# Altium schematic symbol library PADS_lib3.SCHLIB: 31 symbols
Pins are listed as number, name and electrical type; pins without a type are passive.

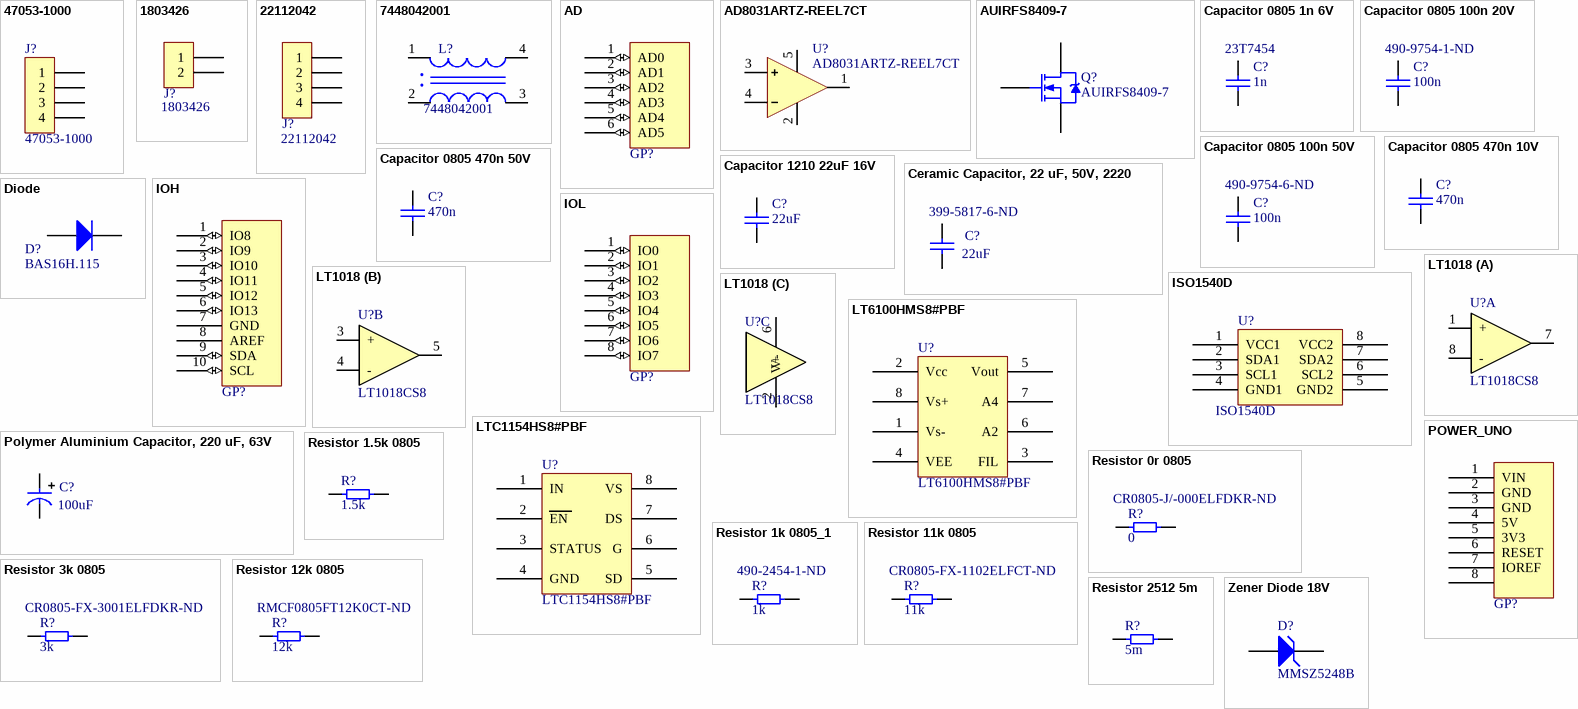
[diagram p0: symbols 47053-1000 to Zener Diode 18V]

## 47053-1000
designator J?
Fan Molex; HelpURL: http://www.molex.com/pdm_docs/sd/470531000_sd.pdf; Supplier 1: Digikey; Supplier Part Number 1: 47053-1000
footprint 47053-1000
pins: 1, 2, 3, 4

## 1803426
designator J?
2 Position Terminal Block Header; Manufacturer: Phoenix Contact; Pin Count: 2; ManufacturerNr: 1803426; HelpURL: https://media.digikey.com/pdf/Data%20Sheets/Phoenix%20Contact%20PDFs/1803426.pdf; Supplier 1: Digikey; Supplier Part Number 1: 277-1221-ND
footprint 1803426
pins: 1, 2

## 22112042
designator J?
KK® 254 Solid Header, Vertical, with Friction Lock, 4 Circuits, Gold (Au) Plating; Manufacturer: Molex; Pin Count: 4; ManufacturerNr: 22-11-2042; HelpURL: http://www.molex.com/pdm_docs/sd/022112042_sd.pdf; Supplier 1: Digikey; Supplier Part Number 1: WM2702-ND
footprint 22112042
footprint 22112042
pins: 1, 2, 3, 4

## 7448042001
designator L?
Common Mode Choke; HelpURL: http://www.mouser.com/ds/2/445/7448042001-321510.pdf; Supplier 1: Mouser; Supplier Part Number 1: 710-7448042001
footprint 7448042001-321510
pins: 1, 2, 3, 4
text: .

## AD
designator GP?  (value not drawn)
Arduino Goldpin AD[0..5]; Supplier 1: Arrow; Supplier Part Number 1: 2699089; Supplier 2: Digi-Key; Supplier Part Number 2: SAM1198-06-ND; Supplier 3: Arrow; Supplier Part Number 3: 2699088; Supplier 4: Arrow; Supplier Part Number 4: 2699075; HelpURL: http://suddendocs.samtec.com/catalog_english/ssq_th.pdf
footprint Header 6x1 8.5mm (Stackable 6 pin header)
pins: 1 AD0 (io), 2 AD1 (io), 3 AD2 (io), 4 AD3 (io), 5 AD4 (io), 6 AD5 (io)

## AD8031ARTZ-REEL7CT
designator U?
2.7 V, 800 μA, 80 MHz / Rail-to-Rail I/O Amplifiers; Manufacturer: Analog Devices; Pin Count: 5; ManufacturerNr: AD8031ARTZ-REEL7CT; Package: SOT23-5; HelpURL: http://www.analog.com/media/en/technical-documentation/data-sheets/AD8031_8032.pdf; Supplier 1: Digikey; Supplier Part Number 1: AD8031ARTZ-REEL7CT-ND
footprint AD-SOT23-5
pins: 1 VOUT, 2 V-, 3 IN++, 4 IN-, 5 V+

## AUIRFS8409-7
designator Q?
HEXFETPower MOSFET; Manufacturer: International Rectifier; Pin Count: 7; ManufacturerNr: AUIRFS8409-7; Package: D2PAK-7; HelpURL: http://www.infineon.com/dgdl/auirfs8409.pdf?fileId=5546d462533600a4015355b73c5f14ec; Supplier 1: Digikey; Supplier Part Number 1: IRAUIRFS8409-7P-ND
footprint AUIRFS8409-7
footprint IR-D2PAK-7
pins: 1 G, 2 S, 3 S, 4 S, 5 S, 6 S, 7 D

## Capacitor 0805 1n 6V
designator C?, comment 1n  Supplier Part Number 1: 23T7454
Capacitor 0805 1n 6V; Part Number: C0805; Pin Count: 2; Manufacturer: *; Package: 0805; ManufacturerNr: *; Value: 1n; Voltage Rating: 6V; Dielectric: *; Supplier 1: Newark
footprint 0805-Capacitor
pins: 1, 2

## Capacitor 0805 100n 20V
designator C?, comment 100n  Supplier Part Number 1: 490-9754-1-ND
Capacitor 0805 100n 20V; Part Number: C0805; Pin Count: 2; Manufacturer: *; Package: 0805; ManufacturerNr: *; Value: 100n; Voltage Rating: 20V; Dielectric: *; Supplier 1: Digikey
footprint 0805-Capacitor
pins: 1, 2

## Capacitor 0805 100n 50V
designator C?, comment 100n  Supplier Part Number 1: 490-9754-6-ND
Capacitor 0805 100n 50V; Part Number: C0805; Pin Count: 2; Manufacturer: *; Package: 0805; ManufacturerNr: *; Value: 100n; Voltage Rating: 50V; Dielectric: *; Supplier 1: Digikey
footprint 0805-Capacitor
pins: 1, 2

## Capacitor 0805 470n 10V
designator C?, comment 470n
Capacitor 0805 470n 10V; Part Number: C0805; Pin Count: 2; Manufacturer: *; Package: 0805; ManufacturerNr: *; Value: 470n; Voltage Rating: 10V; Dielectric: *; Supplier 1: Mouser; Supplier Part Number 1: 581-0805ZC474K4Z2A
footprint 0805-Capacitor
pins: 1, 2

## Capacitor 0805 470n 50V
designator C?, comment 470n
Capacitor 0805 470n 50V; Part Number: C0805; Pin Count: 2; Manufacturer: *; Package: 0805; ManufacturerNr: *; Value: 470n; Voltage Rating: 50V; Dielectric: *; Supplier 1: Mouser; Supplier Part Number 1: 581-0805ZC474K4Z2A
footprint 0805-Capacitor
pins: 1, 2

## Capacitor 1210 22uF 16V
designator C?, comment 22uF
Capacitor 1210 22uF 16V; Part Number: C1210; Pin Count: 2; Manufacturer: *; Package: 1210; ManufacturerNr: *; Value: 22uF; Voltage Rating: 16V; Dielectric: *; Supplier 1: Digikey; Supplier Part Number 1: 399-5092-1-ND
footprint 1210-Capacitor
pins: 1, 2

## Ceramic Capacitor, 22 uF, 50V, 2220
designator C?, comment 22uF  Supplier Part Number 1: 399-5817-6-ND
Ceramic Capacitor, 22 uF, 50V, 2220; Part Number: C2220C226M5R2C7289; Manufacturer: Kemet; Dielectric: X7R; Pin Count: 2; Package: 2220; ManufacturerNr: C2220C226M5R2C7289; Value: 22uF; Voltage Rating: 50V; Supplier 1: Digi-Key
footprint KEMET_2220
pins: 1, 2

## Diode
designator D?, comment BAS16H.115
Diode; Manufacturer: NEXPERIA; Pin Count: 2; Package: SOD123; ManufacturerNr: BAS16H.115; HelpURL: http://assets.nexperia.com/documents/data-sheet/BAS16_SER.pdf; Supplier 1: Digikey; Supplier Part Number 1: 1727-4796-1-ND
footprint SOD123 (SOD123 DIODE)
pins: 1 A, 2 K

## IOH
designator GP?  (value not drawn)
Arduino Goldpin IO8-SCL; Supplier 1: Arrow; Supplier Part Number 1: 2698803S4475693N1004; Supplier 2: Digi-Key; Supplier Part Number 2: SAM1198-10-ND; Supplier 3: Arrow; Supplier Part Number 3: 2698789; HelpURL: http://suddendocs.samtec.com/catalog_english/ssq_th.pdf
footprint Header 10x1 8.5mm (Stackable 10 pin header)
pins: 1 IO8 (io), 2 IO9 (io), 3 IO10 (io), 4 IO11 (io), 5 IO12 (io), 6 IO13 (io), 7 GND (power), 8 AREF, 9 SDA (io), 10 SCL (io)

## IOL
designator GP?  (value not drawn)
Arduino Goldpin IO[0..7]; Supplier 1: Digi-Key; Supplier Part Number 1: SAM1198-08-ND; Supplier 2: Arrow; Supplier Part Number 2: 2698939; Supplier 3: Arrow; Supplier Part Number 3: 2698940; Supplier 4: Arrow; Supplier Part Number 4: 2698925; HelpURL: http://suddendocs.samtec.com/catalog_english/ssq_th.pdf
footprint Header 8x1 8.5mm (Stackable 8 pin header)
pins: 1 IO0 (io), 2 IO1 (io), 3 IO2 (io), 4 IO3 (io), 5 IO4 (io), 6 IO5 (io), 7 IO6 (io), 8 IO7 (io)

## ISO1540D
designator U?
Low-Power Bidirectional I / 2C Isolator; Manufacturer: Texas Instruments; Pin Count: 8; ManufacturerNr: ISO1540D; Package: SOIC-8; HelpURL: http://www.ti.com/lit/ds/symlink/iso1541.pdf; Supplier 1: Farnell; Supplier Part Number 1: 2496652
footprint TI-SO8
pins: 1 VCC1, 2 SDA1, 3 SCL1, 4 GND1, 5 GND2, 6 SCL2, 7 SDA2, 8 VCC2

## LT1018
designator U?, comment LT1018CS8
Micropower  Dual Comparator; HelpURL: http://cds.linear.com/docs/en/datasheet/10178ff.pdf; Supplier 1: TME; Supplier Part Number 1: LT1018CS8PBF
footprint MS8
part A pins: 1 +, 7, 8 -
part B pins: 3 +, 4 -, 5
part C pins: 2 V-, 6 V+

## LT6100HMS8#PBF
designator U?
Precision Current Sense Amplifier; HelpURL: http://www.linear.com/docs/7918; Supplier 1: Digikey; Supplier Part Number 1: LT6100HMS8#PBF-ND
footprint LT-MS8 (TSOP, 8-Leads, Body 3,00x3,00mm, Pitch 0,65mm, IPC Medium Density)
pins: 1 Vs-, 2 Vcc, 3 FIL, 4 VEE, 5 Vout, 6 A2, 7 A4, 8 Vs+

## LTC1154HS8#PBF
designator U?
High side mosfet driver; HelpURL: http://www.linear.com/docs/2054; Supplier 1: Digikey; Supplier Part Number 1: LTC1154HS8#PBF-ND
footprint LT-S8 (SOIC, 8-Leads, Body 4,90x3,90mm, Pitch 1,27mm, IPC Medium Density)
pins: 1 IN, 2 EN, 3 STATUS, 4 GND, 5 SD, 6 G, 7 DS, 8 VS

## Polymer Aluminium Capacitor, 220 uF, 63V
designator C?, comment 100uF
Polymer Aluminium Capacitor, 220 uF, 63V; Part Number: PCR1J101MCL1GS; Manufacturer: Nichicon; Pin Count: 2; Package: PCR_10_12; ManufacturerNr: PCR1J101MCL1GS; Value: 100uF; Voltage Rating: 63V; Dielectric: Polymer Aluminium; Supplier 1: Digikey; Supplier Part Number 1: 493-13783-1-ND
footprint PCR_10_12
pins: 1, 2

## POWER_UNO
designator GP?  (value not drawn)
Arduino Goldpin Power; Supplier 1: Digi-Key; Supplier Part Number 1: SAM1198-08-ND; Supplier 2: Arrow; Supplier Part Number 2: 2698939; Supplier 3: Arrow; Supplier Part Number 3: 2698940; Supplier 4: Arrow; Supplier Part Number 4: 2698925; HelpURL: http://suddendocs.samtec.com/catalog_english/ssq_th.pdf
footprint Header 8x1 8.5mm (Stackable 8 pin header)
pins: 1 VIN (power), 2 GND (power), 3 GND (power), 4 5V (power), 5 3V3 (power), 6 RESET, 7 IOREF (power), 8

## Resistor 0r 0805
designator R?, comment 0  Supplier Part Number 1: CR0805-J/-000ELFDKR-ND
Resistor 0r 0805; Part Number: R0805prime; Pin Count: 2; Manufacturer: *; Package: 0805; ManufacturerNr: *; Value: 0; Supplier 1: Digikey
footprint 0805-Resistor
pins: 1, 2

## Resistor 1.5k 0805
designator R?, comment 1.5k
Resistor 1.5k 0805; Part Number: R0805prime; Pin Count: 2; Manufacturer: *; Package: 0805; ManufacturerNr: *; Value: 1.5k; Supplier 1: Digikey; Supplier Part Number 1: CR0805-FX-1501ELFCT-ND
footprint 0805-Resistor
pins: 1, 2

## Resistor 1k 0805_1
designator R?, comment 1k  Supplier Part Number 1: 490-2454-1-ND
Resistor 1k 0805; Part Number: R0805prime; Pin Count: 2; Manufacturer: *; Package: 0805; ManufacturerNr: *; Value: 1k; Supplier 1: Digikey
footprint 0805-Resistor
pins: 1, 2

## Resistor 3k 0805
designator R?, comment 3k  Supplier Part Number 1: CR0805-FX-3001ELFDKR-ND
Resistor 3k 0805; Part Number: R0805prime; Pin Count: 2; Manufacturer: *; Package: 0805; ManufacturerNr: *; Value: 3k; Supplier 1: Digikey
footprint 0805-Resistor
pins: 1, 2

## Resistor 11k 0805
designator R?, comment 11k  Supplier Part Number 1: CR0805-FX-1102ELFCT-ND
Resistor 11k 0805; Part Number: R0805prime; Pin Count: 2; Manufacturer: *; Package: 0805; ManufacturerNr: *; Value: 11k; Supplier 1: Digikey
footprint 0805-Resistor
pins: 1, 2

## Resistor 12k 0805
designator R?, comment 12k  Supplier Part Number 1: RMCF0805FT12K0CT-ND
Resistor 12k 0805; Part Number: R0805prime; Pin Count: 2; Manufacturer: *; Package: 0805; ManufacturerNr: *; Value: 12k; Supplier 1: Digikey
footprint 0805-Resistor
pins: 1, 2

## Resistor 2512 5m
designator R?, comment 5m
Resistor 2512 5m; Part Number: R2512; Pin Count: 2; Manufacturer: *; Package: 2512; ManufacturerNr: *; Value: 5m; Supplier 1: Digikey; Supplier Part Number 1: CRE2512-FZ-R005E-2DKR-ND
footprint 2512-RESISTOR
pins: 1, 2

## Zener Diode 18V
designator D?, comment MMSZ5248B
Zener Diode 18V; Manufacturer: FAIRCHILD SEMICONDUCTOR; Pin Count: 2; Package: SOD123; ManufacturerNr: MMSZ5248B; Value: 18V; HelpURL: https://www.diodes.com/assets/Datasheets/ds18010.pdf; Supplier 1: Digikey; Supplier Part Number 1: MMSZ5248B-FDICT-ND
footprint SOD123 (SOD123 DIODE)
pins: 1 A, 2 K